# EAGLE library part LASTTRENNSCHALTER_3-POL (library e-schalter)
Lasttrennschalter, 3-pol.
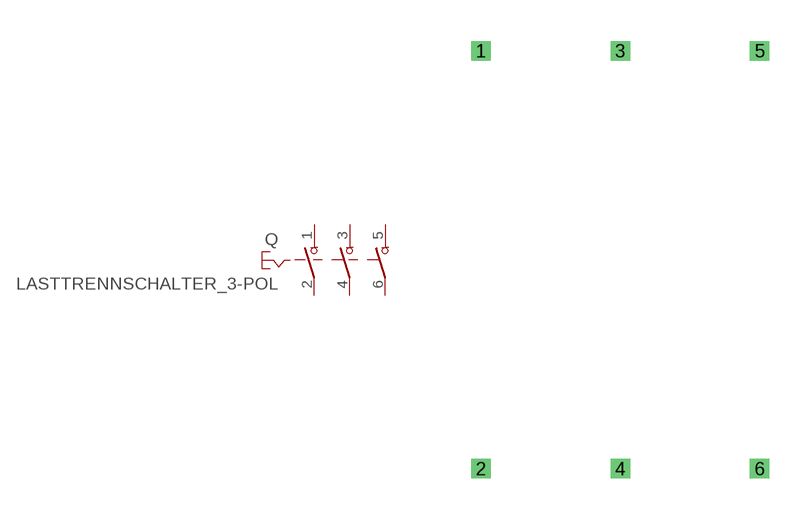
[diagram p2: symbol with the pads of LASTTRENNSCHALTER_3-POL; footprint LASTTRENNSCHALTER_3-POL]

Designator prefix Q

## LASTTRENNSCHALTER_3-POL  [LASTTRENNSCHALTER_3-POL]
1  1  in
2  2  in
3  3  in
4  4  in
5  5  in
6  6  in

## Footprint LASTTRENNSCHALTER_3-POL (pad centres in mm)
Dummy
drill 0.2 pad 0.6 square: 1 0,7.62; 2 0,-7.62; 3 5.08,7.62; 4 5.08,-7.62; 5 10.16,7.62; 6 10.16,-7.62